# EAGLE library part UART-6_PIN (library p.peter-connectors)
RX and TX direction as seen from outside. I.e. connect RX from connector to RX from Atmega
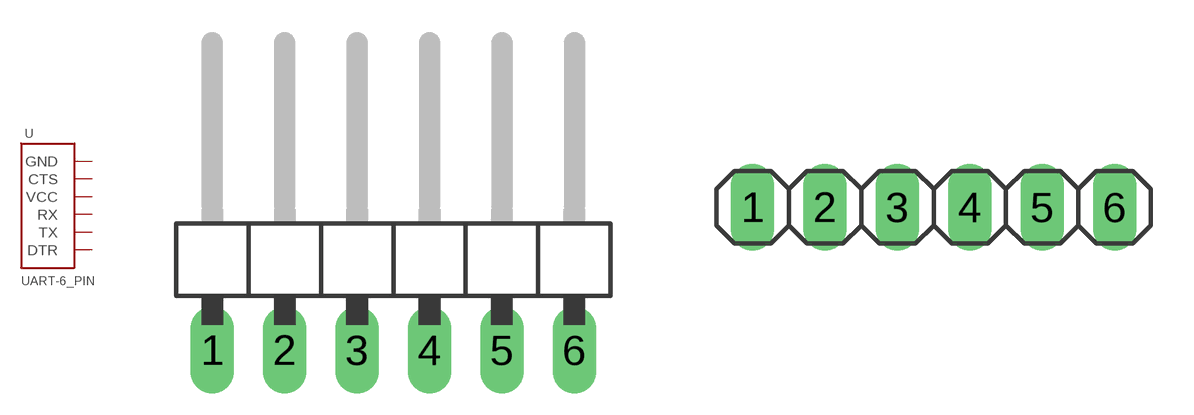
[diagram p1: symbol with the pads of ANGLE-1X6; footprints ANGLE-1X6, PINHEADER-100MIL-1X6]

Designator prefix -

## UART-6_PINUART  [ANGLE-1X6]
1  GND
2  CTS
3  VCC
4  RX
5  TX
6  DTR

## UART-6_PINGENERIC  [PINHEADER-100MIL-1X6]
Pads as for ANGLE-1X6

## Footprint ANGLE-1X6 (pad centres in mm)
drill 1.016 long: 1 -6.35,-2.54; 2 -3.81,-2.54; 3 -1.27,-2.54; 4 1.27,-2.54; 5 3.81,-2.54; 6 6.35,-2.54

## Footprint PINHEADER-100MIL-1X6 (pad centres in mm)
PIN HEADER
drill 1.016 long: 1 -6.35,0; 2 -3.81,0; 3 -1.27,0; 4 1.27,0; 5 3.81,0; 6 6.35,0